# Altium footprint library IND-SRP0612.PcbLib: 1 footprints
Each footprint in its own frame and in the unit in brackets; x right, y up, seen from the top. Pads: shape width x height; smd on the part's side, far side on the other; paste and mask are expansions set on the pad; w line width, h text height; cw(c..) or ccw(c..) is an arc to the next point about the centre after c.
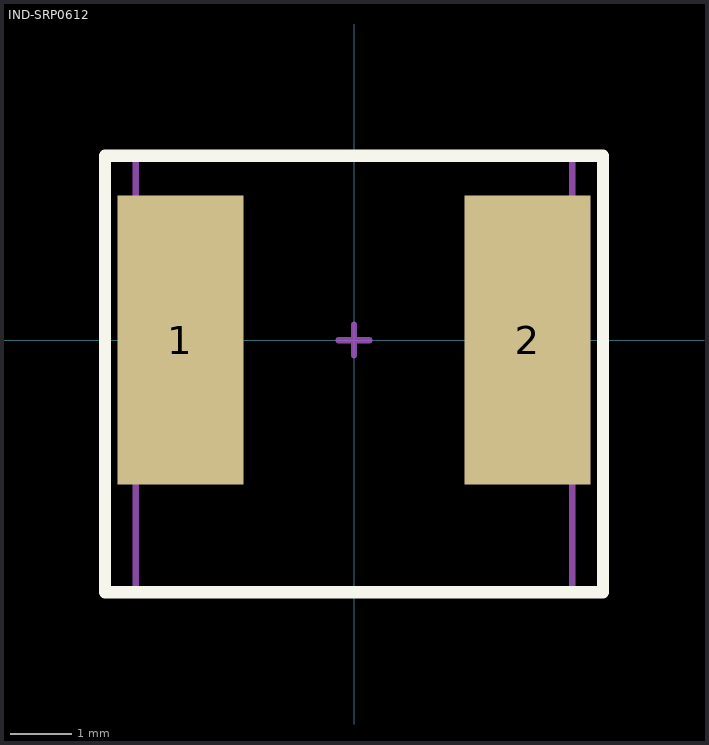
[diagram p0: the footprint, top view; thin cyan lines are the x and y axes]

## IND-SRP0612 [mm]
height 0.55
pads (2):
  rect 2.05x4.7 smd: 1(-2.825,0) 2(2.825,0)
Top Overlay:
  lines w0.2: -4.05,-4.1 -4.05,3 4.05,3 4.05,-4.1 -4.05,-4.1
Top Assembly:
  lines w0.1: -0.25,0 0.25,0 ; 0,-0.25 0,0.25 ; -3.55,-4.1 -3.55,3 3.55,3 3.55,-4.1 -3.55,-4.1
  text "'.Designator'" at -3.965,-0.292 h0.7
3D body: height 1.2, standoff 0, extent -3.55,-4.1 3.55,3